# EAGLE library part LSM9DS0 (library ChicagoRobotics)
LSM9DS0 3-Axis Accelerometer/Gyroscope/Magnetometer ±2/±4/±6/±8/±16 g linear acceleration ±2/±4/±8/±12 gauss magnetic ±245/±500/±2000 dps angular rate I2C/SPI Interface 2.4-3.6V Supply, 1.8V - VDD Logic
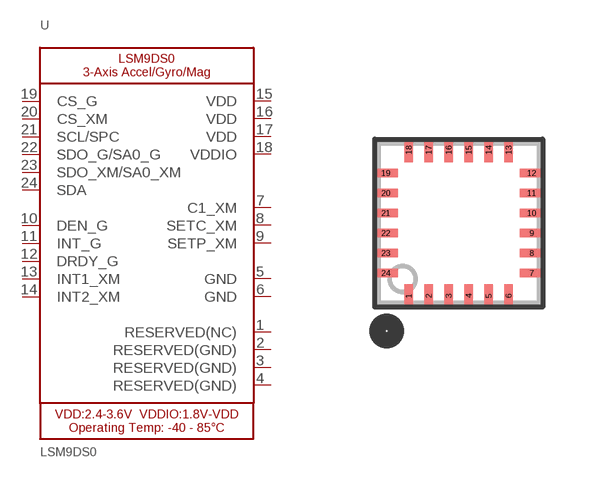
[diagram p4: symbol with the pads of LGA24_4X4MM; footprint LGA24_4X4MM]

Designator prefix U

## LSM9DS0  [LGA24_4X4MM]
1  RESERVED(NC)  nc
2  RESERVED(GND)  pwr
3  RESERVED(GND)  pwr
4  RESERVED(GND)  pwr
5  GND  pwr
6  GND  pwr
7  C1_XM
8  SETC_XM
9  SETP_XM
10  DEN_G
11  INT_G
12  DRDY_G
13  INT1_XM
14  INT2_XM
15  VDD  pwr
16  VDD  pwr
17  VDD  pwr
18  VDDIO  pwr
19  CS_G
20  CS_XM
21  SCL/SPC
22  SDO_G/SA0_G
23  SDO_XM/SA0_XM
24  SDA

## Footprint LGA24_4X4MM (pad centres in mm)
smd 0.21 x 0.6: 1 -1.25,-1.825; 2 -0.75,-1.825; 3 -0.25,-1.825; 4 0.25,-1.825; 5 0.75,-1.825; 6 1.25,-1.825; 13 1.25,1.825; 14 0.75,1.825; 15 0.25,1.825; 16 -0.25,1.825; 17 -0.75,1.825; 18 -1.25,1.825
smd 0.6 x 0.21: 7 1.825,-1.25; 8 1.825,-0.75; 9 1.825,-0.25; 10 1.825,0.25; 11 1.825,0.75; 12 1.825,1.25; 19 -1.825,1.25; 20 -1.825,0.75; 21 -1.825,0.25; 22 -1.825,-0.25; 23 -1.825,-0.75; 24 -1.825,-1.25